# Altium footprint library GTFP08131Y2HR.PcbLib: 2 footprints
Each footprint in its own frame and in the unit in brackets; x right, y up, seen from the top. Pads: shape width x height; smd on the part's side, far side on the other; paste and mask are expansions set on the pad; w line width, h text height; cw(c..) or ccw(c..) is an arc to the next point about the centre after c.
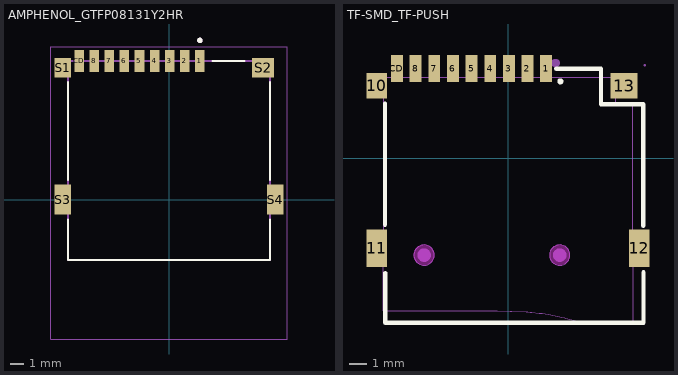
[diagram p0: the footprints below, top view; thin cyan lines are the x and y axes]

## AMPHENOL_GTFP08131Y2HR [mm]
pads (13):
  rect 0.7x1.6 smd: 1(2.25,10.1) 2(1.15,10.1) 3(0.05,10.1) 4(-1.05,10.1) 5(-2.15,10.1) 6(-3.25,10.1) 7(-4.35,10.1) 8(-5.45,10.1) CD(-6.55,10.1)
  rect 1.2x1.4 smd: S1(-7.75,9.6)
  rect 1.6x1.4 smd: S2(6.85,9.6)
  rect 1.2x2.2 smd: S3(-7.75,0) S4(7.75,0)
Top Overlay:
  circle w0.2: c2.25,11.6 r0.1
  lines w0.127: -7.35,-1.42 -7.35,-4.4 7.35,-4.4 7.35,-1.42 ; -7.35,1.42 -7.35,8.58 ; 3.15,10.1 5.5,10.1 ; 7.35,1.42 7.35,8.58
Mechanical 13:
  circle w0.2: c2.25,11.6 r0.1
  lines w0.127: -7.35,-4.4 -7.35,10.1 7.35,10.1 7.35,-4.4 -7.35,-4.4
Mechanical 15:
  lines w0.05: -8.6,-10.15 8.6,-10.15 8.6,11.15 -8.6,11.15 -8.6,-10.15
3D body "step_temp.STEP": height 1.9, standoff 0, extent -8.05,-4.4 8.05,10.6

## TF-SMD_TF-PUSH [mm]
pads (13):
  rect 0.7x1.6 smd mask+0.102: 1(2.25,5.3) 2(1.15,5.3) 3(0.05,5.3) 4(-1.05,5.3) 5(-2.15,5.3) 6(-3.25,5.3) 7(-4.35,5.3) 8(-5.45,5.3) CD(-6.55,5.3)
  rect 1.2x1.5 smd mask+0.102: 10(-7.75,4.3)
  rect 1.2x2.2 smd mask+0.102: 11(-7.75,-5.3) 12(7.75,-5.3)
  rect 1.6x1.5 smd mask+0.102: 13(6.85,4.3)
Top Overlay:
  circle w0.254: c3.087,4.552 r0.052
  lines w0.254: -7.26,-3.91 -7.26,3.25 ; -7.24,-6.76 -7.24,-9.7 8,-9.7 8,-6.71 ; 2.85,5.3 4.702,5.3 5.489,5.3 5.489,3.199 5.5,3.2 ; 5.49,3.2 7.98,3.2 7.98,-3.969
Keep-Out Layer:
  board cut-out: -4.35,-5.7 -4.35,-5.581 -4.441,-5.36 -4.61,-5.191 -4.831,-5.1 -5.069,-5.1 -5.29,-5.191 -5.459,-5.36 -5.55,-5.581 -5.55,-5.7 -5.55,-5.819 -5.459,-6.04 -5.29,-6.209 -5.069,-6.3 -4.831,-6.3 -4.61,-6.209 -4.441,-6.04 -4.35,-5.819 -4.35,-5.7
  board cut-out: 3.65,-5.7 3.65,-5.581 3.559,-5.36 3.39,-5.191 3.169,-5.1 2.931,-5.1 2.71,-5.191 2.541,-5.36 2.45,-5.581 2.45,-5.7 2.45,-5.819 2.541,-6.04 2.71,-6.209 2.931,-6.3 3.169,-6.3 3.39,-6.209 3.559,-6.04 3.65,-5.819 3.65,-5.7
Mechanical 1:
  circle w0.005: c-4.95,-5.7 r0.6
  circle w0.005: c3.05,-5.7 r0.6
Mechanical 6:
  circle w0.4: c3.05,-5.7 r0.2
  circle w0.4: c-4.95,-5.7 r0.2
  circle w0.254: c2.81,5.63 r0.127
Mechanical 15:
  region: 8.13,5.505 8.13,5.53 8.095,5.565 8.045,5.565 8.01,5.53 8.01,5.505 8.01,5.48 8.045,5.445 8.095,5.445 8.13,5.48 8.13,5.505
  region: -6.7,5.505 -6.4,5.505 -6.4,4.805 -6.7,4.805
  region: -5.6,5.505 -5.3,5.505 -5.3,4.805 -5.6,4.805
  region: -4.5,5.505 -4.2,5.505 -4.2,4.805 -4.5,4.805
  region: -3.4,5.505 -3.1,5.505 -3.1,4.805 -3.4,4.805
  region: -2.3,5.505 -2,5.505 -2,4.805 -2.3,4.805
  region: -1.2,5.505 -0.9,5.505 -0.9,4.805 -1.2,4.805
  region: -0.1,5.505 0.2,5.505 0.2,4.805 -0.1,4.805
  region: 1,5.505 1.3,5.505 1.3,4.805 1,4.805
  region: 2.1,5.505 2.4,5.505 2.4,4.805 2.1,4.805
  region: -7.37,3.806 -8.069,3.806 -8.07,4.806 -7.383,4.806 -7.382,4.805 -7.384,4.498
  region: 6.481,3.805 7.181,3.805 7.181,4.805 6.494,4.805 6.469,4.806 6.472,4.752 6.473,4.671 6.474,4.498
  region: -7.369,-6.094 -7.37,-4.494 -8.069,-4.494 -8.069,-6.094 -8.009,-6.094
  region: 8.069,-6.092 8.068,-4.492 7.369,-4.492 7.369,-6.091 7.429,-6.091
  lines w0.051: -8.07,4.806 -8.07,3.806 -7.37,3.806 -7.37,-4.494 -8.07,-4.494 -8.07,-6.094 -7.37,-6.094 -7.37,-8.994 -6.352,-8.995 -2.476,-8.986 -1.695,-8.99 -0.648,-8.989 0.138,-8.999 0.232,-9.003 1.09,-9.042 1.163,-9.05 1.308,-9.069 1.414,-9.075 1.841,-9.121 2.012,-9.136 2.38,-9.204 3.048,-9.34 3.176,-9.371 3.348,-9.403 3.411,-9.421 3.876,-9.552 4.14,-9.628 4.388,-9.695 4.389,-9.694 7.379,-9.694 7.38,-9.693 7.38,-6.094 8.07,-6.094 ; -8.07,4.806 -8.07,4.806 ; -8.07,4.806 7.181,4.806 ; 7.181,4.806 7.181,4.806 ; 7.181,4.806 7.181,3.806 7.181,3.806 6.33,3.806 6.33,3.306 7.229,3.306 7.229,3.206 7.37,3.206 7.37,-4.494 7.37,-4.494 8.069,-4.494 8.07,-4.495 8.07,-6.094 ; 8.07,-6.094 8.07,-6.094
3D body "step_temp.STEP": height 1.9, standoff 0, extent -8.05,-9.734 8.05,5.266